# EAGLE library part IND_CM-2251-1 (library wheat)
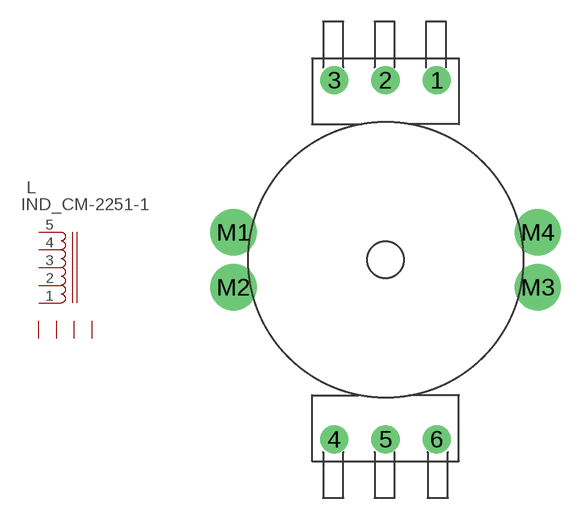
[diagram p163: symbol with the pads of IND_POT_CINEMAG; footprint IND_POT_CINEMAG]

Designator prefix L

## IND_CM-2251-1  [IND_POT_CINEMAG]
1  COM  pas
2  L1  pas
3  L2  pas
4  L3  pas
5  L4  pas
M1  G1  pas
M2  G2  pas
M3  G3  pas
M4  G4  pas

## Footprint IND_POT_CINEMAG (pad centres in mm)
drill 1.3: 1 3.556,12.446; 2 0,12.446; 3 -3.556,12.446; 4 -3.556,-12.446; 5 0,-12.446; 6 3.556,-12.446
drill 2.2: M1 -10.541,1.905; M2 -10.541,-1.905; M3 10.541,-1.905; M4 10.541,1.905